# Altium integrated library ESP8266_Hot_Plate.IntLib: 33 symbols
Pins are listed as number, name and electrical type; pins without a type are passive.

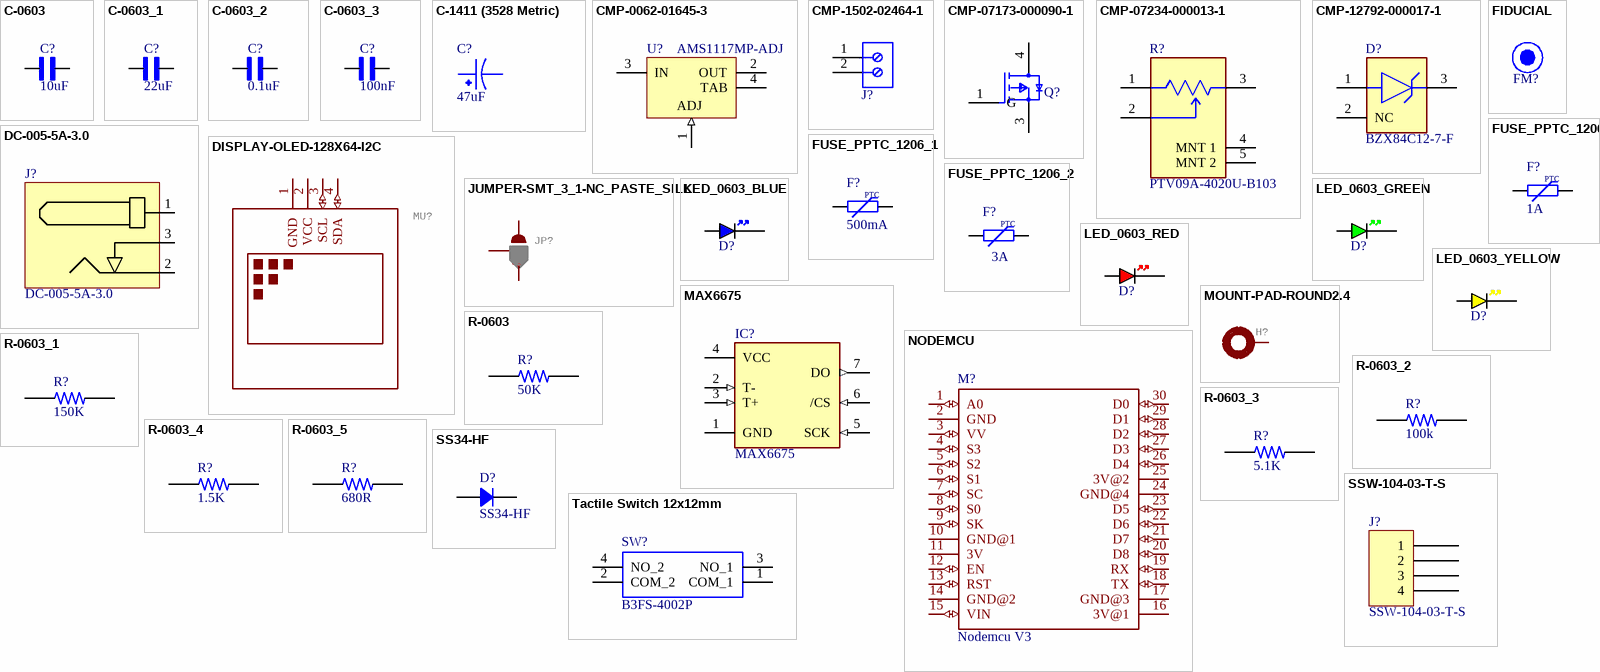
[diagram p0: symbols C-0603 to Tactile Switch 12x12mm]

## C-0603
designator C?, comment 10uF
Ceramic Capacitor 16V 0603 (1608 Metric); MP: C0603C104J4RAC; MF: KEMET; SnapEDA_Link: https://www.snapeda.com/parts/C0603C104J4RAC/KEMET/view-part/1763758/?ref=snap; Availability: Warning; Package: 0603 KEMET; Check_prices: https://www.snapeda.com/parts/C0603C104J4RAC/KEMET/view-part/1763758/?ref=eda; Value: *; Price: None
footprint C-0603
pins: 1, 2

## C-0603_1
designator C?, comment 22uF
Ceramic Capacitor 16V 0603 (1608 Metric); MP: C0603C104J4RAC; MF: KEMET; SnapEDA_Link: https://www.snapeda.com/parts/C0603C104J4RAC/KEMET/view-part/1763758/?ref=snap; Availability: Warning; Package: 0603 KEMET; Check_prices: https://www.snapeda.com/parts/C0603C104J4RAC/KEMET/view-part/1763758/?ref=eda; Value: *; Price: None
footprint C-0603
pins: 1, 2

## C-0603_2
designator C?, comment 0.1uF
Ceramic Capacitor 16V 0603 (1608 Metric); MP: C0603C104J4RAC; MF: KEMET; SnapEDA_Link: https://www.snapeda.com/parts/C0603C104J4RAC/KEMET/view-part/1763758/?ref=snap; Availability: Warning; Package: 0603 KEMET; Check_prices: https://www.snapeda.com/parts/C0603C104J4RAC/KEMET/view-part/1763758/?ref=eda; Value: *; Price: None
footprint C-0603
pins: 1, 2

## C-0603_3
designator C?, comment 100nF
Ceramic Capacitor 16V 0603 (1608 Metric); MP: C0603C104J4RAC; MF: KEMET; SnapEDA_Link: https://www.snapeda.com/parts/C0603C104J4RAC/KEMET/view-part/1763758/?ref=snap; Availability: Warning; Package: 0603 KEMET; Check_prices: https://www.snapeda.com/parts/C0603C104J4RAC/KEMET/view-part/1763758/?ref=eda; Value: *; Price: None
footprint C-0603
pins: 1, 2

## C-1411 (3528 Metric)
designator C?, comment 47uF
Molded Tantalum Capacitors 16V 1411 (3528 Metric); MF: KEMET; MP: T495B106K025ATE750; Package: 1411 KEMET; Value: *; Availability: Unavailable; SnapEDA_Link: https://www.snapeda.com/parts/T495B106K025ATE750/KEMET/view-part/1680496/?ref=snap; Price: None
footprint 1411-3528
pins: 1, 2

## CMP-0062-01645-3
designator U?, comment AMS1117MP-ADJ
800mA Low-Dropout Linear Regulator, 4-pin SOT-223; PartNumber: LM1117MP-ADJ; Manufacturer: National Semiconductor; Manufacturer: TI National Semiconductor; Manufacturer Part Number: LM1117MPADJ; High-Reliability: Y; PackageTopMarking: XYTT*N03A; CompType: LDO IC; PowerWise: N; ComponentLink2URL: http://www.national.com/ds/LM/LM1117.pdf; ComponentLink1Description: Manufacturer URL; DatasheetVersion: Apr-2006; PackageReference: MP04A; RoHS: N; ComponentLink3Description: LM1117 Web Page; RevisionNote: SCH symbol layout adjusted; PackageDescription: Molded SOT-223, 6.50 x 3.56 x 1.6mm Body, 4 Lead, 2.3mm Pitch; Code_IPC: SOT223-4; ComponentLink1URL: http://www.national.com/; ComponentLink4Description: MP04A Package Page; ComponentLink3URL: http://www.national.com/pf/LM/LM1117.html; PackageVersion: revB, Apr-2003; ComponentLink2Description: LM1117 Datasheet; PinCount: 4; ComponentLink4URL: http://www.national.com/packaging/folders/mp04a.html; Code_JEDEC: TO-261-AA
footprint MP04A_N (SOT223, 4-Leads, Body 6.5x3.5mm, Pitch 2.3mm, Lead Span 7mm, IPC Medium Density)
footprint MP04A_M (SOT223, 4-Leads, Body 6.5x3.5mm, Pitch 2.3mm, Lead Span 7mm, IPC Low Density)
footprint MP04A_L (SOT223, 4-Leads, Body 6.5x3.5mm, Pitch 2.3mm, Lead Span 7mm, IPC High Density)
pins: 1 ADJ (in), 2 OUT (power), 3 IN (power), 4 TAB (power)

## CMP-1502-02464-1
designator J?, comment 691214110002  (value not drawn)
Serie 2141 - 3.50 mm Horizontal Entry Modular with Rising Cage Clamp WR-TBL, 2 pin; Manufacturer: Wurth Elektronik; Manufacturer: Wurth Electronics; Pin Number: 2; Pitch: 3.50mm; Datasheet URL: http://katalog.we-online.de/em/datasheet/6912141100xx.pdf; Packaging: Box; Mounting Technology: THT; Package Reference: 691214110002; Manufacturer URL: http://www.we-online.de; Part Number: 691214110002; Publisher: WurthElektronik; Operating Temperature: -40to105degC; Manufacturer Part Number: 691214110002
footprint 691214110002 (3.50 mm Horizontal Entry Modular, 2p)
pins: 1, 2

## CMP-07173-000090-1
designator Q?, comment FDD6637  (value not drawn)
MOSFET P-CH 35V 13A DPAK; Manufacturer: ON Semiconductor; Manufacturer: ON Semiconductor / Fairchild; Threshold Vgs Max: -3V; Transconductance: 35S; Rthja Max: 96°C/W; Pulse Drain Current: -100A; Reverse Recovery Time: 28ns; Number Of P Channels: 1; Drain To Source Voltage: -35V; Turn On Delay Time: 18ns; Depletion Mode: False; Turn Off Delay Time: 62ns; Max Junction Temp: +150°C; Gate To Source Voltage: 25V; Gate Charge At Vgs: 45nC @ -10V; Threshold Vgs Min: -1V; Drain To Source Resistance: 9.7mΩ; Power Dissipation: 1.3W; Typ Forward Diode Voltage: -0.8V; Input Capacitace At Vds: 2370pF @ -20V; Max Forward Diode Voltage: -1.2V; Continuous Drain Current: -13A; Reverse Recovery Charge: 15nC; Temperature: -55°C to +150°C; Package: 369AS; Device Class L2: Transistors; Automotive: No; ComponentLink2URL: https://www.onsemi.com/pub/Collateral/FDD6637-D.pdf; Temperature Range Low: -55°C; Manufacturer Part Number: FDD6637; Number Of Channels: 1; Lead Free: Yes; Temperature Range High: +150°C; ComponentLink2Description: Datasheet; RoHS: TRUE; Octopart: https://octopart.com/fdd6637-on+semiconductor-84325825; Drain To Source Breakdown Voltage: -35V; Footprint Url: https://www.onsemi.com/pub/Collateral/369AS.PDF; Category: Trans; Device Class L1: Discrete Semiconductors; Digikey Description: MOSFET P-CH 35V 13A DPAK; Device Class L3: MOSFETs; Mouser Description: MOSFET 35V PCH PowerTrench MOSFET; Height: 2.517mm
footprint FP-369AS-MFG
pins: 1 G, 3 S, 4 D

## CMP-07234-000013-1
designator R?, comment PTV09A-4020U-B103
POT 10K OHM 1/20W CARBON LINEAR; Manufacturer: Bourns Inc.; Manufacturer: Bourns; Voltage Rating: 50V; Resistance: 10kΩ; Tolerance: 20%; Value: 10kΩ; Power Rating: 0.05W; Composition: Carbon; Lead Free: Yes; Device Class L1: Passive Components; Device Class L3: Variable Resistors and Potentiometers; Temperature: -10°C to +50°C; Series: PTV09; Manufacturer Part Number: PTV09A-4020U-B103; Device Class L2: Resistors; Temperature Range Low: -10°C; Height: 20.5mm; Temperature Range High: +50°C; Octopart: https://octopart.com/ptv09a-4020u-b103-bourns-1878033; Digikey Description: POT 10K OHM 1/20W CARBON LINEAR; RoHS: TRUE; ComponentLink2URL: https://www.bourns.com/docs/product-datasheets/ptv09.pdf?sfvrsn=5e1089f1_12; Package: PTV09A-4; Mouser Description: Potentiometers 10K LINEAR 20%; Category: Res; ComponentLink2Description: Datasheet; Automotive: No
footprint FP-PTV09A-4-MFG
pins: 1, 2, 3, 4 MNT 1, 5 MNT 2

## CMP-12792-000017-1
designator D?, comment BZX84C12-7-F
DIODE ZENER 12V 300MW SOT23-3; Manufacturer: Diodes Inc.; Manufacturer: Diodes; Max Reverse Leakage Current: 0.1uA; Max Zener Voltage: 12.7V; Reverse Voltage: 8V; Zener Impedance: 25Ω; Max Junction Temp: +150°C; Standoff Height: 0.013mm; Height: 1.1mm; RoHS: TRUE; Manufacturer Part Number: BZX84C12-7-F; Digikey Description: DIODE ZENER 12V 300MW SOT23-3; Device Class L2: Diodes; Power Dissipation: 300mW; Category: Diode; Device Class L3: Zener Diodes; Footprint Url: https://www.diodes.com/assets/Package-Files/SOT23.pdf; Nom Zener Voltage: 12V; Temperature: -65°C to +150°C; ComponentLink2Description: Datasheet; Lead Free: Yes; ComponentLink2URL: https://www.diodes.com/assets/Datasheets/ds18001.pdf; Mouser Description: Zener Diodes 12V 350mW; Temperature Range Low: -65°C; Automotive: No; Package: SOT23; Ipc Land Pattern Name: SOT92P240X102-3; Temperature Range High: +150°C; Octopart: https://octopart.com/bzx84c12-7-f-diodes+inc.-327696; Device Class L1: Discrete Semiconductors
footprint FP-SOT23-MFG
footprint FP-SOT23-IPC_C
footprint FP-SOT23-IPC_B
footprint FP-SOT23-IPC_A
pins: 1 A, 2 NC, 3 C

## DC-005-5A-3.0
designator J?
DC Barrell Jack 6.2mm 5 A3.0mm Through Hole; Parameter 1: XKB; Parameter 2: DC-005-5A-3.0
footprint DC-005-5A-3.0
pins: 1, 2, 3

## DISPLAY-OLED-128X64-I2C
designator MU?, comment 128x64 Dot Matrix OLED Module based on SSD1306  (value not drawn)
128x64 Dot Matrix OLED Module based on SSD1306 chip Variant with I2C interface   More details available here: http://www.instructables.com/id/Monochrome-096-i2c-OLED-display-with-arduino-SSD13/   SSD1306 datasheet: https://cdn-shop.adafruit.com/datasheets/SSD1306.pdf   Click here to find device on ebay.com Note: There are two variants: I2C and SPI. Search for the proper version.; GateName_1: G$1; SymbolName_1: DISPLAY-OLED-128X64-I2C; LibraryName: diy-modules; DeviceSetName: DISPLAY-OLED-128X64-I2C; Package: DISPLAY-OLED-128X64-I2C
footprint DISPLAY-OLED-128X64-I2C
pins: 1 GND (power), 2 VCC (power), 3 SCL (io), 4 SDA (io)

## FIDUCIAL
designator FM?  (value not drawn)
footprint FIDUCIAL-1MM (1MM FIDUCAL MARKER)

## FUSE_PPTC_1206
designator F?, comment 1A
Fuse PPTC SMD 1206; Manufacturer: *; Manufacturer Part Number: *
footprint FUSE_1206
pins: 1, 2
text: PTC

## FUSE_PPTC_1206_1
designator F?, comment 500mA
Fuse PPTC SMD 1206; Manufacturer: *; Manufacturer Part Number: *
footprint FUSE_1206
pins: 1, 2
text: PTC

## FUSE_PPTC_1206_2
designator F?, comment 3A
Fuse PPTC SMD 1206; Manufacturer: *; Manufacturer Part Number: *
footprint FUSE_1206
pins: 1, 2
text: PTC

## JUMPER-SMT_3_1-NC_PASTE_SILK
designator JP?  (value not drawn)
Normally closed solder jumper (1 of 2 connections)    This jumper has an aperture in the stencil to allow solder paste to bridge one of the two connections. One connection is normally closed (NC), while the other is normally open (NO). Wick off the solder to open the connection. Reapply solder to reclose the connection. Apply solder to the other side instead to change the current path.; GateName_1: G$1; SymbolName_1: SMT-JUMPER_3_1-NC_PASTE; DeviceName: _SILK; LibraryName: SparkFun-Jumpers; DeviceSetName: JUMPER-SMT_3_1-NC_PASTE; Package: SMT-JUMPER_3_1-NC_PASTE_SILK
footprint SMT-JUMPER_3_1-NC_PASTE_SILK
pins: 1, 2, 3

## LED_0603_BLUE
designator D?, comment BLUE  (value not drawn)
LED 0603 BLUE SMD
footprint LED_0603_BLUE
pins: A, K

## LED_0603_GREEN
designator D?, comment GREEN  (value not drawn)
LED 0603 GREEN SMD
footprint LED_0603_GREEN
pins: A, K

## LED_0603_RED
designator D?, comment RED  (value not drawn)
LED 0603 RED SMD
footprint LED_0603_RED
pins: A, K

## LED_0603_YELLOW
designator D?, comment YELLOW  (value not drawn)
LED 0603 YELLOW SMD
footprint LED_0603_YELLOW
pins: A, K

## MAX6675
designator IC?
IC THERMOCOUP TO DGTL 8-SOIC; MF: Maxim Integrated; Package: SOIC-8 Maxim Integrated; Availability: Unavailable; MP: MAX6675; Value: *; SnapEDA_Link: https://www.snapeda.com/parts/MAX6675/Maxim%20Integrated/view-part/558569/?ref=snap; Price: None
footprint SO08
pins: 1 GND (power), 2 T- (in), 3 T+ (in), 4 VCC (power), 5 SCK (in), 6 /CS (in), 7 DO (out)

## MOUNT-PAD-ROUND2.4
designator H?, comment MOUNTING PAD, round  (value not drawn)
GateName_1: G$1; SymbolName_1: MOUNT-PAD; DeviceName: 2.8; DeviceSetName: MOUNT-PAD-ROUND; POPULARITY: 6; LibraryName: Holes-Custom; Package: 2,8-PAD
footprint 2,4-PAD
pins: 1 MOUNT

## NODEMCU
designator M?, comment Nodemcu V3
Node MCU V3 Module; GateName_1: G$1; SymbolName_1: NODEMCU; LibraryName: nodemcu; DeviceSetName: NODEMCU; Package: NODEMCU
footprint NODEMCU
pins: 1 A0 (io), 2 GND (power), 3 VV (io), 4 S3 (io), 5 S2 (io), 6 S1 (io), 7 SC (io), 8 S0 (io), 9 SK (io), 10 GND@1 (power), 11 3V (power), 12 EN (io), 13 RST (io), 14 GND@2 (power), 15 VIN (io), 16 3V@1 (power), 17 GND@3 (power), 18 TX (io), 19 RX (io), 20 D8 (io), 21 D7 (io), 22 D6 (io), 23 D5 (io), 24 GND@4 (power), 25 3V@2 (power), 26 D4 (io), 27 D3 (io), 28 D2 (io), 29 D1 (io), 30 D0 (io)

## R-0603
designator R?, comment 50K
0603; MP: 2-1623703-0; Power_Rating: .1 W; Value: 10K; Tolerance: 1%; MF: TE Connectivity; Package: 0603; Price: None; Resistance: 10K; Check_prices: https://www.snapeda.com/parts/2-1623703-0/TE%20Connectivity/view-part/2213192/?ref=eda; SnapEDA_Link: https://www.snapeda.com/parts/2-1623703-0/TE%20Connectivity/view-part/2213192/?ref=snap; Availability: Warning
footprint R-0603
pins: 1, 2

## R-0603_1
designator R?, comment 150K
0603; MP: 2-1623703-0; Power_Rating: .1 W; Value: 10K; Tolerance: 1%; MF: TE Connectivity; Package: 0603; Price: None; Resistance: 10K; Check_prices: https://www.snapeda.com/parts/2-1623703-0/TE%20Connectivity/view-part/2213192/?ref=eda; SnapEDA_Link: https://www.snapeda.com/parts/2-1623703-0/TE%20Connectivity/view-part/2213192/?ref=snap; Availability: Warning
footprint R-0603
pins: 1, 2

## R-0603_2
designator R?, comment 100k
0603; MP: 2-1623703-0; Power_Rating: .1 W; Value: 10K; Tolerance: 1%; MF: TE Connectivity; Package: 0603; Price: None; Resistance: 10K; Check_prices: https://www.snapeda.com/parts/2-1623703-0/TE%20Connectivity/view-part/2213192/?ref=eda; SnapEDA_Link: https://www.snapeda.com/parts/2-1623703-0/TE%20Connectivity/view-part/2213192/?ref=snap; Availability: Warning
footprint R-0603
pins: 1, 2

## R-0603_3
designator R?, comment 5.1K
0603; MP: 2-1623703-0; Power_Rating: .1 W; Value: 10K; Tolerance: 1%; MF: TE Connectivity; Package: 0603; Price: None; Resistance: 10K; Check_prices: https://www.snapeda.com/parts/2-1623703-0/TE%20Connectivity/view-part/2213192/?ref=eda; SnapEDA_Link: https://www.snapeda.com/parts/2-1623703-0/TE%20Connectivity/view-part/2213192/?ref=snap; Availability: Warning
footprint R-0603
pins: 1, 2

## R-0603_4
designator R?, comment 1.5K
0603; MP: 2-1623703-0; Power_Rating: .1 W; Value: 10K; Tolerance: 1%; MF: TE Connectivity; Package: 0603; Price: None; Resistance: 10K; Check_prices: https://www.snapeda.com/parts/2-1623703-0/TE%20Connectivity/view-part/2213192/?ref=eda; SnapEDA_Link: https://www.snapeda.com/parts/2-1623703-0/TE%20Connectivity/view-part/2213192/?ref=snap; Availability: Warning
footprint R-0603
pins: 1, 2

## R-0603_5
designator R?, comment 680R
0603; MP: 2-1623703-0; Power_Rating: .1 W; Value: 10K; Tolerance: 1%; MF: TE Connectivity; Package: 0603; Price: None; Resistance: 10K; Check_prices: https://www.snapeda.com/parts/2-1623703-0/TE%20Connectivity/view-part/2213192/?ref=eda; SnapEDA_Link: https://www.snapeda.com/parts/2-1623703-0/TE%20Connectivity/view-part/2213192/?ref=snap; Availability: Warning
footprint R-0603
pins: 1, 2

## SS34-HF
designator D?
DIODE SCHOTTKY 40V 3A DO214AC; Manufacturer: Comchip Technology; Capacitance @ Vr, F: 450pF @ 4V, 1MHz; Current - Reverse Leakage @ Vr: 500 µA @ 40 V; Speed: Fast Recovery =< 500ns, > 200mA (Io); Voltage - Forward (Vf) (Max) @ If: 550 mV @ 3 A; Part Number: SS34-HF; ComponentLink2Description: DigiKey Link; ComponentLink2URL: https://www.digikey.com/en/products/detail/comchip-technology/SS34-HF/10279693; Current - Average Rectified (Io): 3A; Diode Type: Schottky; LastUpdated: 02-01-2023 08:53:33 PM; Lifecycle Status: Active; Minimum Order: 1; Mounting Type: Surface Mount; Package / Case: DO-214AC, SMA; Packaging: TapeAndReel; PartId: 2138; Price: 0.07; Supplier 1: DigiKey; Supplier Part Number 1: 641-2115-1-ND; Supplier Device Package: DO-214AC (SMA); Voltage - DC Reverse (Vr) (Max): 40 V; ComponentLink1Description: Datasheet; ComponentLink1URL: http://www.comchiptech.com/admin/files/product/20190514101641.pdf; Operating Temperature - Junction: -55°C ~ 125°C; Part Status: Active; Series: -
footprint DO214AC SMA
pins: 1, 2

## SSW-104-03-T-S
designator J?
CONN RCPT 4POS 0.1 TIN PCB; Manufacturer: Samtec Inc.; Connector Type: Receptacle; Current Rating (Amps): 5.7A per Contact; Material Flammability Rating: UL94 V-0; Number of Positions: 4; Number of Positions Loaded: All; Style: Board to Board or Cable; Part Number: SSW-104-03-T-S; ComponentLink2Description: DigiKey Link; ComponentLink2URL: http://digikey.com/product-detail/en/samtec-inc/SSW-104-03-T-S/SSW-104-03-T-S-ND/7874034; Contact Finish - Mating: Tin; Contact Finish - Post: Tin; Contact Type: Forked; Fastening Type: Push-Pull; Insulation Color: Black; LastUpdated: 21-06-2022 03:08:52 PM; Lifecycle Status: Active; Minimum Order: 1; Mounting Type: Through Hole; Number of Rows: 1; Operating Temperature: -55°C ~ 105°C; Packaging: Bulk; Part Status: Active; Price: 0.83; Series: SSW; Supplier 1: DigiKey; Supplier Part Number 1: SSW-104-03-T-S-ND; Termination: Solder
footprint SAMTEC SSW-104-03-T-S
pins: 1, 2, 3, 4

## Tactile Switch 12x12mm
designator SW?, comment B3FS-4002P
Black Cap Tactile Switch, SPST-NO 50 mA @ 24 V dc 0.4mm; Manufacturer_Name: Omron Electronics; Geometry.Height: 4mm; Mouser Part Number: 653-B3FS-4002P; Mouser Price/Stock: https://www.mouser.co.uk/ProductDetail/Omron-Electronics/B3FS-4002P?qs=%2Fv%252BM2iqGzeVovpzrTEhCpQ%3D%3D; Manufacturer_Part_Number: B3FS-4002P; Datasheet Link: http://omronfs.omron.com/en_US/ecb/products/pdf/en-b3fs_4.pdf
footprint B3FS4002P
pins: 1 COM_1, 2 COM_2, 3 NO_1, 4 NO_2